# Altium schematic symbol library SCH - MCU - ATTINY - MICROCHIP ATTINY20-CCU UFBGA15.SchLib: 1 symbol
Pins are listed as number, name and electrical type; pins without a type are passive.

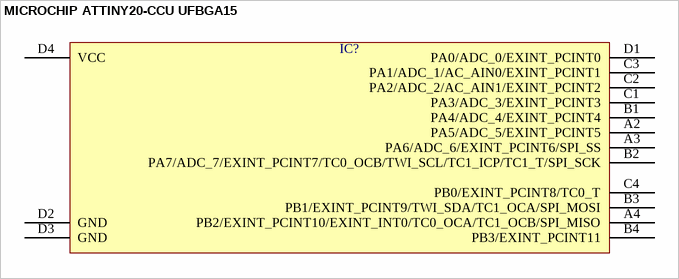
[diagram p0: symbol MICROCHIP ATTINY20-CCU UFBGA15]

## MICROCHIP ATTINY20-CCU UFBGA15
designator IC?  (value not drawn)
pins: A2 PA5/ADC_5/EXINT_PCINT5, A3 PA6/ADC_6/EXINT_PCINT6/SPI_SS, A4 PB2/EXINT_PCINT10/EXINT_INT0/TC0_OCA/TC1_OCB/SPI_MISO, B1 PA4/ADC_4/EXINT_PCINT4, B2 PA7/ADC_7/EXINT_PCINT7/TC0_OCB/TWI_SCL/TC1_ICP/TC1_T/SPI_SCK, B3 PB1/EXINT_PCINT9/TWI_SDA/TC1_OCA/SPI_MOSI, B4 PB3/EXINT_PCINT11, C1 PA3/ADC_3/EXINT_PCINT3, C2 PA2/ADC_2/AC_AIN1/EXINT_PCINT2, C3 PA1/ADC_1/AC_AIN0/EXINT_PCINT1, C4 PB0/EXINT_PCINT8/TC0_T, D1 PA0/ADC_0/EXINT_PCINT0, D2 GND, D3 GND, D4 VCC